# Altium schematic symbol library parts.SchLib: 29 symbols
Pins are listed as number, name and electrical type; pins without a type are passive.

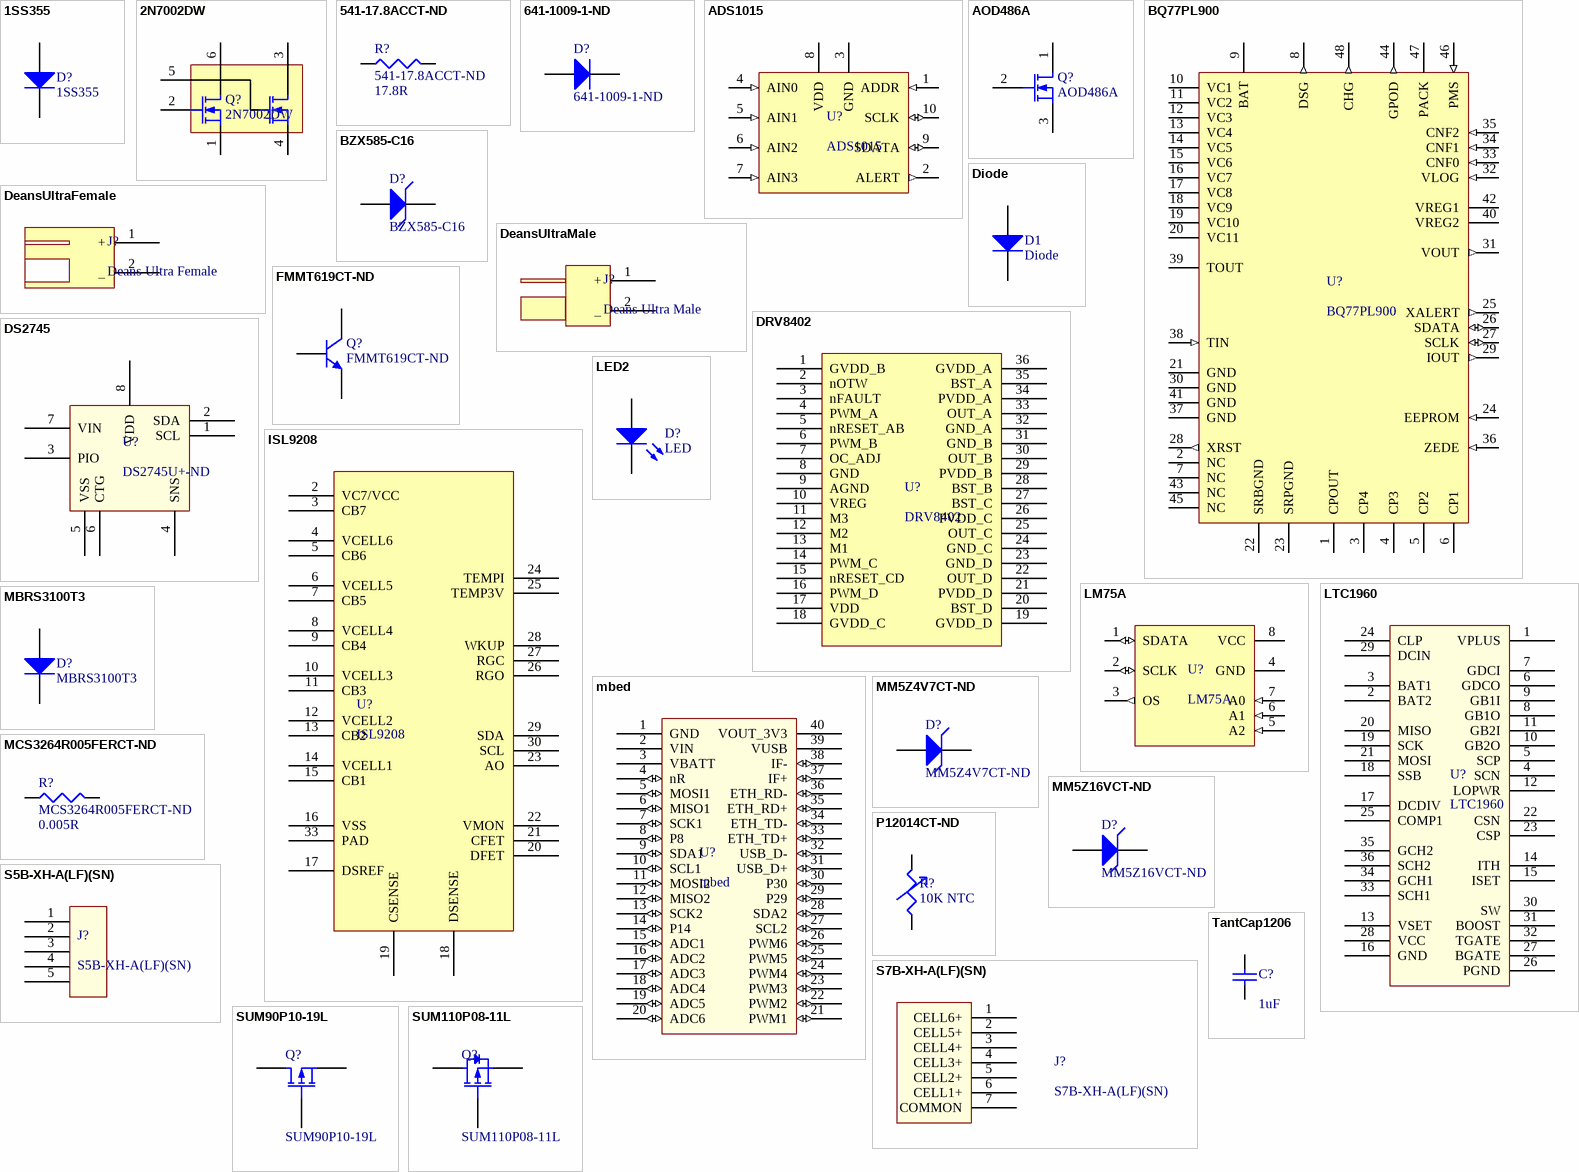
[diagram p0: symbols 1SS355 to TantCap1206]

## 1SS355
designator D?
Diode, fast switch, 1SS355, 225mA; Published: 8-Jun-2000; LatestRevisionDate: 17-Jul-2002; LatestRevisionNote: Re-released for DXP Platform.; PackageVersion: Sep-1996; PackageReference: SMC; Publisher: Altium Limited; Code_JEDEC: DO-214-AB
footprint SOD323-rough
simulation model DIODE (Diode)
signal-integrity model Diode
pins: 1 A, 2 K

## 2N7002DW
designator Q?
Dual N-Channel MOSFET - 2N7002DW - 2N7002DW-TPCT-ND; PackageDocument: 1995/1996; Published: 8-Jun-2000; LatestRevisionDate: 17-Jul-2002; LatestRevisionNote: Re-released for DXP Platform.; PackageReference: E3; Publisher: Altium Limited
footprint SOT363_M (SOT363, 6-Leads, Body 2x1.3mm, Pitch 0.65mm, Lead Span 2.1mm, IPC Low Density)
pins: 1 S, 2 G, 3 D, 4 S, 5 G, 6 D

## 541-17.8ACCT-ND
designator R?  value 17.8R
Resistor 17.8R Balancing; Published: 8-Jun-2000; LatestRevisionDate: 04-Mar-2005; LatestRevisionNote: PCB Footprint replaced.; PackageReference: J1-0603; Publisher: Altium Limited
footprint 5025[2010] (Chip Resistor; Body 5.0 x 2.5 mm (LxW typ))
pins: 1, 2

## 641-1009-1-ND
designator D?
DIODE SCHOTTKY 40V 200MA 0603; Published: 8-Jun-2000; LatestRevisionDate: 17-Jul-2002; LatestRevisionNote: Re-released for DXP Platform.; PackageDocument: Sep-1996; PackageReference: SMC; Publisher: Altium Limited; Code_JEDEC: DO-214-AB
simulation model DIODE (Diode)
signal-integrity model Diode
footprint J1-0603 (Chip Resistor; Body 1.6 x 0.8 mm (LxW typ))
pins: 1 A, 2 K

## ADS1015
designator U?
Quad I/P I2C ADC
footprint TSSOP50P490X110-10N (TSSOP, 10-Leads, Body 3.1x3.1mm (max), Pitch 0.50mm, IPC Medium Density)
pins: 1 ADDR (in), 2 ALERT (out), 3 GND (power), 4 AIN0 (in), 5 AIN1 (in), 6 AIN2 (in), 7 AIN3 (in), 8 VDD (power), 9 SDATA (io), 10 SCLK (io)

## AOD486A
designator Q?
N-Channel MOSFET - AOD486A - 785-1115-1-ND; PackageDocument: 1995/1996; Published: 8-Jun-2000; LatestRevisionDate: 17-Jul-2002; LatestRevisionNote: Re-released for DXP Platform.; PackageReference: E3; Publisher: Altium Limited
footprint D2PAK (D2-PAK/TO-263-AB; 3 Leads (1 Cropped); Body 15.5 (inc. leads) x 10.5 mm (LxW max))
pins: 1 D, 2 G, 3 S

## BQ77PL900
designator U?
Battery protector/AFE
footprint SOP63P1030X279-48N (SOP, 48-Leads, Body 16.0x7.6mm (max), Pitch 0.63mm, IPC Medium Density)
pins: 1 CPOUT, 2 NC, 3 CP4, 4 CP3, 5 CP2, 6 CP1, 7 NC, 8 DSG (out), 9 BAT (power), 10 VC1, 11 VC2, 12 VC3, 13 VC4, 14 VC5, 15 VC6, 16 VC7, 17 VC8, 18 VC9, 19 VC10, 20 VC11, 21 GND, 22 SRBGND, 23 SRPGND, 24 EEPROM (in), 25 XALERT (out), 26 SDATA (io), 27 SCLK (io), 28 XRST (out), 29 IOUT (out), 30 GND (power), 31 VOUT (out), 32 VLOG (in), 33 CNF0 (in), 34 CNF1 (in), 35 CNF2 (in), 36 ZEDE (in), 37 GND (power), 38 TIN (in), 39 TOUT, 40 VREG2 (power), 41 GND (power), 42 VREG1 (power), 43 NC, 44 GPOD (out), 45 NC, 46 PMS (in), 47 PACK (power), 48 CHG (out)

## BZX585-C16
designator D?
DIODE ZENER 16V 300MW SOD523; Published: 8-Jun-2000; LatestRevisionDate: 17-Jul-2002; LatestRevisionNote: Re-released for DXP Platform.; PackageDocument: Sep-1996; PackageReference: SMC; Publisher: Altium Limited; Code_JEDEC: DO-214-AB
simulation model DIODE (Diode)
signal-integrity model Diode
footprint SOD523-rough
pins: 1 K, 2 A

## DeansUltraFemale
designator J?, comment Deans Ultra Female
footprint DEANS_FEMALE_SIDEWAYS
pins: 1 + (power), 2 _ (power)

## DeansUltraMale
designator J?, comment Deans Ultra Male
footprint DEANS_MALE_SIDEWAYS
pins: 1 + (power), 2 _ (power)

## Diode
designator D1
Default Diode; Published: 8-Jun-2000; LatestRevisionDate: 17-Jul-2002; LatestRevisionNote: Re-released for DXP Platform.; PackageVersion: Sep-1996; PackageReference: SMC; Publisher: Altium Limited; Code_JEDEC: DO-214-AB
footprint DSO-C2/X3.3 (DO-214-AB/SMC; 2 C-Bend Leads; Body 7.9 x 5.9 mm, inc. leads (LxW))
simulation model DIODE (Diode)
signal-integrity model Diode
pins: 1 A, 2 K

## DRV8402
designator U?
Dual Smart 5A 50V Motor Controller
footprint SOP65P1420X265-36N (SOP, 36-Leads, Body 16.8x11.1mm (max), Pitch 0.65mm, IPC Medium Density)
pins: 1 GVDD_B (power), 2 nOTW (power), 3 nFAULT (power), 4 PWM_A (power), 5 nRESET_AB (power), 6 PWM_B (power), 7 OC_ADJ (power), 8 GND (power), 9 AGND (power), 10 VREG (power), 11 M3 (power), 12 M2 (power), 13 M1 (power), 14 PWM_C (power), 15 nRESET_CD (power), 16 PWM_D (power), 17 VDD (power), 18 GVDD_C (power), 19 GVDD_D (power), 20 BST_D (power), 21 PVDD_D (power), 22 OUT_D (power), 23 GND_D (power), 24 GND_C (power), 25 OUT_C (power), 26 PVDD_C (power), 27 BST_C (power), 28 BST_B (power), 29 PVDD_B (power), 30 OUT_B (power), 31 GND_B (power), 32 GND_A (power), 33 OUT_A (power), 34 PVDD_A (power), 35 BST_A (power), 36 GVDD_A (power)

## DS2745
designator U?, comment DS2745U+-ND
I2C Battery Monitor, Low Cost
footprint uSOP8 (Shrink Small Outline; 8 Leads; Body Width 3 mm; Pitch 0.65 mm)
pins: 1 SCL (power), 2 SDA (power), 3 PIO (power), 4 SNS (power), 5 VSS (power), 6 CTG (power), 7 VIN (power), 8 VDD (power)

## FMMT619CT-ND
designator Q?
NPN Bipolar Transistor FMMT619CT-ND; Published: 8-Jun-2000; LatestRevisionDate: 17-Jul-2002; LatestRevisionNote: Re-released for DXP Platform.; PackageReference: SOT-23B; Publisher: Altium Limited; Code_JEDEC: SOT-23
footprint SOT-23B (SOT-23; 3 Leads; Body 3.0 x 2.6 mm, inc. leads (LxW max))
simulation model QNPN (NPN)
signal-integrity model NPN
pins: 1 B, 2 E, 3 C

## ISL9208
designator U?
Battery AFE
footprint QFN50P500X500X145-32M (QFN, 32-Leads, Body 5.0x5.0mm (max), Pitch 0.50mm, IPC Low Density)
pins: 1 NC (power) hidden, 2 VC7/VCC (power), 3 CB7 (power), 4 VCELL6 (power), 5 CB6 (power), 6 VCELL5 (power), 7 CB5 (power), 8 VCELL4 (power), 9 CB4 (power), 10 VCELL3 (power), 11 CB3 (power), 12 VCELL2 (power), 13 CB2 (power), 14 VCELL1 (power), 15 CB1 (power), 16 VSS (power), 17 DSREF (power), 18 DSENSE (power), 19 CSENSE (power), 20 DFET (power), 21 CFET (power), 22 VMON (power), 23 AO (power), 24 TEMPI (power), 25 TEMP3V (power), 26 RGO (power), 27 RGC (power), 28 WKUP (power), 29 SDA (power), 30 SCL (power), 31 NC (power) hidden, 32 NC (power) hidden, 33 PAD (power)

## LED2
designator D?, comment LED
Typical RED, GREEN, YELLOW, AMBER  0805 LED; Published: 8-Jun-2000; LatestRevisionDate: 17-Jul-2002; LatestRevisionNote: Re-released for DXP Platform.; PackageDocument: Feb-2002; PackageReference: 3.2X1.6X1.1; Publisher: Altium Limited
footprint 3.2X1.6X1.1 (SMT LED; 2 Flat Leads)
simulation model LED2 (Diode)
footprint C0805 (Chip Capacitor; Body 2.0 x 1.2 mm (LxW typ))
pins: 1 A, 2 K

## LM75A
designator U?
Digital temperature sensor and thermal watchdog
footprint SOP127P600X175-8N (SOP, 8-Leads, Body 5.0x4.0mm (max), Pitch 1.27mm, IPC Medium Density)
pins: 1 SDATA (io), 2 SCLK (io), 3 OS (out), 4 GND (power), 5 A2 (in), 6 A1 (in), 7 A0 (in), 8 VCC (power)

## LTC1960
designator U?
Linear Tech Dual Battery Charger
footprint SOP65P780X199-36M (SOP, 36-Leads, Body 12.9x5.4mm (max), Pitch 0.65mm, IPC Low Density)
pins: 1 VPLUS, 2 BAT2, 3 BAT1, 4 SCN, 5 SCP, 6 GDCO, 7 GDCI, 8 GB1O, 9 GB1I, 10 GB2O, 11 GB2I, 12 LOPWR, 13 VSET, 14 ITH, 15 ISET, 16 GND, 17 DCDIV, 18 SSB, 19 SCK, 20 MISO, 21 MOSI, 22 CSN, 23 CSP, 24 CLP, 25 COMP1, 26 PGND, 27 BGATE, 28 VCC, 29 DCIN, 30 SW, 31 BOOST, 32 TGATE, 33 SCH1, 34 GCH1, 35 GCH2, 36 SCH2

## mbed
designator U?
mbed Microcontroller Module
footprint DIP40
pins: 1 GND (power), 2 VIN (power), 3 VBATT (power), 4 nR (io), 5 MOSI1 (io), 6 MISO1 (io), 7 SCK1 (io), 8 P8 (io), 9 SDA1 (io), 10 SCL1 (io), 11 MOSI2 (io), 12 MISO2 (io), 13 SCK2 (io), 14 P14 (io), 15 ADC1 (io), 16 ADC2 (io), 17 ADC3 (io), 18 ADC4 (io), 19 ADC5 (io), 20 ADC6 (io), 21 PWM1 (io), 22 PWM2 (io), 23 PWM3 (io), 24 PWM4 (io), 25 PWM5 (io), 26 PWM6 (io), 27 SCL2 (io), 28 SDA2 (io), 29 P29 (io), 30 P30 (io), 31 USB_D+ (io), 32 USB_D- (io), 33 ETH_TD+ (io), 34 ETH_TD- (io), 35 ETH_RD+ (io), 36 ETH_RD- (io), 37 IF+ (io), 38 IF- (io), 39 VUSB (power), 40 VOUT_3V3 (power)

## MBRS3100T3
designator D?
Diode, schottky, 3A, 100V; Published: 8-Jun-2000; LatestRevisionDate: 17-Jul-2002; LatestRevisionNote: Re-released for DXP Platform.; PackageVersion: Sep-1996; PackageReference: SMC; Publisher: Altium Limited; Code_JEDEC: DO-214-AB
footprint SOJ300P790X241-2M-SMC Case 403 (SOJ, 2-Leads, Body 6.1x8.1mm (max), Pitch 3.00mm, IPC Low Density)
simulation model DIODE (Diode)
signal-integrity model Diode
pins: 1 A, 2 K

## MCS3264R005FERCT-ND
designator R?  value 0.005R
Resistor 0.005R Sense; Published: 8-Jun-2000; LatestRevisionDate: 04-Mar-2005; LatestRevisionNote: PCB Footprint replaced.; PackageReference: J1-0603; Publisher: Altium Limited
footprint 6332[2512] (Chip Resistor; Body 6.3 x 3.2 mm (LxW typ))
pins: 1, 2

## MM5Z4V7CT-ND
designator D?
DIODE ZENER 4.7V 200MW 0603; Published: 8-Jun-2000; LatestRevisionDate: 17-Jul-2002; LatestRevisionNote: Re-released for DXP Platform.; PackageDocument: Sep-1996; PackageReference: SMC; Publisher: Altium Limited; Code_JEDEC: DO-214-AB
simulation model DIODE (Diode)
signal-integrity model Diode
footprint J1-0603 (Chip Resistor; Body 1.6 x 0.8 mm (LxW typ))
pins: 1 A, 2 K

## MM5Z16VCT-ND
designator D?
DIODE ZENER 16V 200MW 0603; Published: 8-Jun-2000; LatestRevisionDate: 17-Jul-2002; LatestRevisionNote: Re-released for DXP Platform.; PackageDocument: Sep-1996; PackageReference: SMC; Publisher: Altium Limited; Code_JEDEC: DO-214-AB
simulation model DIODE (Diode)
signal-integrity model Diode
footprint J1-0603 (Chip Resistor; Body 1.6 x 0.8 mm (LxW typ))
pins: 1 A, 2 K

## P12014CT-ND
designator R?  value 10K NTC  (hidden comment: P12014CT-ND)
10k NTC Thermistor 0603; Published: 8-Jun-2000; LatestRevisionDate: 04-Mar-2005; LatestRevisionNote: PCB Footprint replaced.; PackageReference: J1-0603; Publisher: Altium Limited
footprint J1-0603 (Chip Resistor; Body 1.6 x 0.8 mm (LxW typ))
footprint 3225[1210] (Chip Resistor; Body 3.2 x 2.5 mm (LxW typ))
footprint 5025[2010] (Chip Resistor; Body 5.0 x 2.5 mm (LxW typ))
footprint 6332[2512] (Chip Resistor; Body 6.3 x 3.2 mm (LxW typ))
simulation model RESISTOR (Resistor)
signal-integrity model Res
pins: 1, 2

## S5B-XH-A(LF)(SN)
designator J?
Balancing Connector 455-2242-ND
footprint XH_I2C_CONN
pins: 1 (power), 2 (power), 3 (power), 4 (power), 5 (power)

## S7B-XH-A(LF)(SN)
designator J?
Balancing Connector 455-2240-ND
footprint XH_BALANCE_CONN
pins: 1 CELL6+ (power), 2 CELL5+ (power), 3 CELL4+ (power), 4 CELL3+ (power), 5 CELL2+ (power), 6 CELL1+ (power), 7 COMMON (power)

## SUM90P10-19L
designator Q?
P-Channel MOSFET - SUM90P10-19L; PackageDocument: 1995/1996; Published: 8-Jun-2000; LatestRevisionDate: 17-Jul-2002; LatestRevisionNote: Re-released for DXP Platform.; PackageReference: E3; Publisher: Altium Limited
footprint D2PAK (D2-PAK/TO-263-AB; 3 Leads (1 Cropped); Body 15.5 (inc. leads) x 10.5 mm (LxW max))
pins: 1 D, 2 G, 3 S

## SUM110P08-11L
designator Q?
P-Channel MOSFET - SUM110P08-11L; PackageDocument: 1995/1996; Published: 8-Jun-2000; LatestRevisionDate: 17-Jul-2002; LatestRevisionNote: Re-released for DXP Platform.; PackageReference: E3; Publisher: Altium Limited
footprint D2PAK (D2-PAK/TO-263-AB; 3 Leads (1 Cropped); Body 15.5 (inc. leads) x 10.5 mm (LxW max))
pins: 1 D, 2 G, 3 S

## TantCap1206
designator C?, comment value 1uF  (hidden comment: 718-1113-1-ND)
TANTAMOUNT® 293D series tantalum 1206 cap; Published: 8-Jun-2000; LatestRevisionDate: 17-Jul-2002; LatestRevisionNote: Re-released for DXP Platform.; PackageReference: C1206; Publisher: Altium Limited
footprint C1206 (Chip Capacitor; Body 3.2 x 1.6 mm (LxW typ))
simulation model CAP (Semiconductor Capacitor)
signal-integrity model Cap Semi
pins: 1, 2